# EAGLE library part WM8783 (library gee_s)
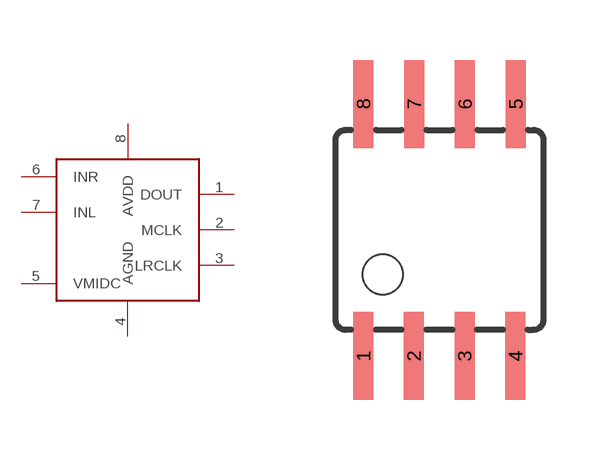
[diagram p15: symbol with the pads of SOIC8; footprint SOIC8]

Designator prefix -

## WM8783  [SOIC8]
1  DOUT
2  MCLK
3  LRCLK
4  AGND
5  VMIDC
6  INR
7  INL
8  AVDD

## Footprint SOIC8 (pad centres in mm)
Wide Plastic Gull Wing Small Outline Package
smd 0.5 x 2.2: 1 -1.905,-3.154; 2 -0.645,-3.154; 3 0.625,-3.154; 4 1.895,-3.154; 5 1.905,3.154; 6 0.635,3.154; 7 -0.635,3.154; 8 -1.905,3.154